# EAGLE library part BQ25570 (library df4iah_powersupply)
TI BQ25570 Nano Power Boost Charger and Buck Converter for Energy Harvester Powered Applications
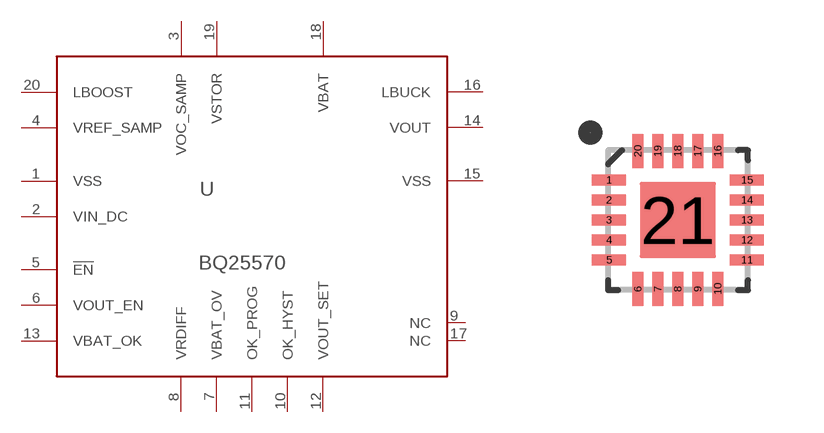
[diagram p2: symbol with the pads of V-PVQFN-20; footprint V-PVQFN-20]

Designator prefix U

## BQ25570  [V-PVQFN-20]
1  VSS  pas
2  VIN_DC  pwr
3  VOC_SAMP  pas
4  VREF_SAMP  pas
5  !EN  in
6  VOUT_EN  in
7  VBAT_OV  pas
8  VRDIFF  pas
9  NC  nc
10  OK_HYST  pas
11  OK_PROG  pas
12  VOUT_SET  pas
13  VBAT_OK  out
14  VOUT  pwr
15  VSS  pas
16  LBUCK  pas
17  NC  nc
18  VBAT  sup
19  VSTOR  pas
20  LBOOST  pas

## Footprint V-PVQFN-20 (pad centres in mm)
RGR(20) following Texas-Instruments naming convention 1. V-PVQFN-20 following Texas-Instruments naming convention 2. chip size: 3.5 mm X 3.5 mm outline: 4.3 mm X 4.3 mm modified by DF4IAH.
smd 0.85 x 0.28: 1 -1.725,1; 2 -1.725,0.5; 3 -1.725,0; 4 -1.725,-0.5; 5 -1.725,-1; 11 1.725,-1; 12 1.725,-0.5; 13 1.725,0; 14 1.725,0.5; 15 1.725,1
smd 0.28 x 0.85: 6 -1,-1.725; 7 -0.5,-1.725; 8 0,-1.725; 9 0.5,-1.725; 10 1,-1.725; 16 1,1.725; 17 0.5,1.725; 18 0,1.725; 19 -0.5,1.725; 20 -1,1.725
smd 1.9 x 1.9: 21 0,0